# Altium footprint library CAPPR5-13x16.PcbLib: 1 footprints
Each footprint in its own frame and in the unit in brackets; x right, y up, seen from the top. Pads: shape width x height; smd on the part's side, far side on the other; paste and mask are expansions set on the pad; w line width, h text height; cw(c..) or ccw(c..) is an arc to the next point about the centre after c.
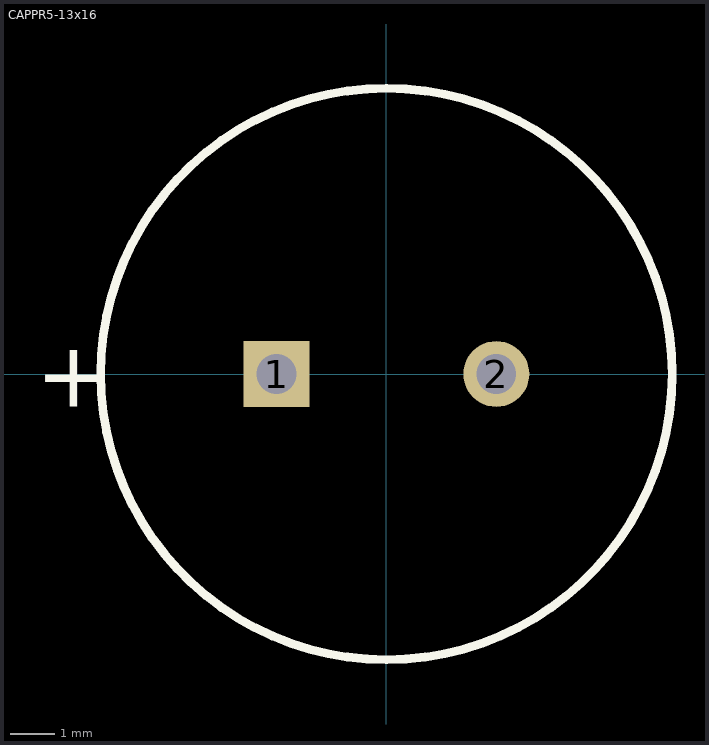
[diagram p0: the footprint, top view; thin cyan lines are the x and y axes]

## CAPPR5-13x16 [mm] "Capacitor, Electrolytic, Radial; Body 13 x 16 mm (Dia.xH typ); Pin Spacing 5 mm (typ)"
height 18
pads (2):
  rect 1.5x1.5 hole 0.9: 1(-2.5,0)
  round 1.5 hole 0.9: 2(2.5,0)
Top Overlay:
  circle w0.2: c0,0 r6.5
  text "+" at -7.975,-0.75 h1.5